# Altium footprint library WE-XHMI_6030.PcbLib: 1 footprints
Each footprint in its own frame and in the unit in brackets; x right, y up, seen from the top. Pads: shape width x height; smd on the part's side, far side on the other; paste and mask are expansions set on the pad; w line width, h text height; cw(c..) or ccw(c..) is an arc to the next point about the centre after c.
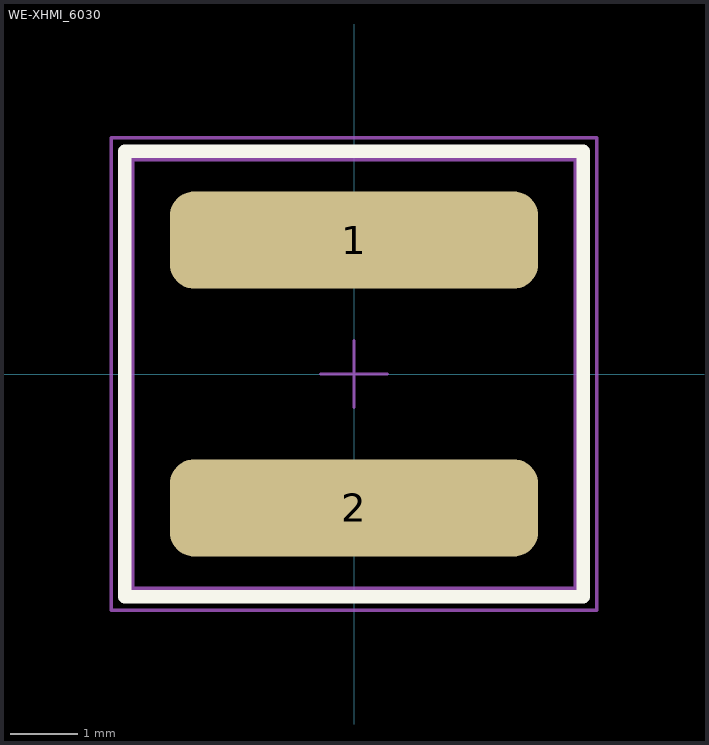
[diagram p0: the footprint, top view; thin cyan lines are the x and y axes]

## WE-XHMI_6030 [mm]
pads (2):
  rrect50% 5.5x1.45 smd: 1(0,2) 2(0,-2)
Top Overlay:
  lines w0.2: -3.425,-3.325 -3.425,3.325 3.425,3.325 3.425,-3.325 -3.425,-3.325
Top Assembly:
  circle w0.5: c-2.159,2.159 r0.2
  lines w0.1: -3.325,-3.225 -3.325,3.225 3.325,3.225 3.325,-3.225 -3.325,-3.225
  text "'.Designator'" at -2.54,-0.127 h0.4
Top Courtyard:
  lines w0.05: -0.5,0 0.5,0 ; 0,-0.5 0,0.5 ; -3.625,-3.525 -3.625,3.525 3.625,3.525 3.625,-3.525 -3.625,-3.525
3D body "74439344xxx.stp": height 3, standoff 0, extent -3.325,-3.225 3.325,3.225